# Altium integrated library SM04B-GHS-TB_LF__SN_-.IntLib: 1 symbol
Pins are listed as number, name and electrical type; pins without a type are passive.

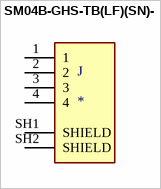
[diagram p0: symbol SM04B-GHS-TB(LF)(SN)-]

## SM04B-GHS-TB(LF)(SN)-
designator J
Connector Header Surface Mount, Right Angle 4 position 0.049 _1.25mm_; MP: SM04B-GHS-TB_LF__SN_-; MF: JST Sales; Availability: Unavailable; Package: None; Value: *; Price: None; SnapEDA_Link: https://www.snapeda.com/parts/SM04B-GHS-TB%28LF%29%28SN%29-/JST%20Sales%20America%20Inc./view-part/2759740/?ref=snap
footprint JST_SM04B-GHS-TB(LF)(SN)-
pins: 1, 2, 3, 4, SH1 SHIELD (power), SH2 SHIELD (power)